# Altium schematic symbol library IXDN609SIA.SchLib: 1 symbol
Pins are listed as number, name and electrical type; pins without a type are passive.

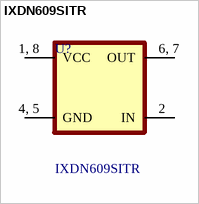
[diagram p0: symbol IXDN609SITR]

## IXDN609SITR
designator U?
footprint IXDN609SITR
pins: 1, 8 VCC (power) "Supply Voltage - Provides power to the device", 2 IN (hiz) "Logic Input", 4, 5 GND (power) "Ground - Common ground reference for the device", 6, 7 OUT (hiz) "Output - Sources or sinks current to turn-on or turn-off a discrete MOSFET or IGBT"